# Altium schematic symbol library CONNECTOR_Test.SchLib: 37 symbols
Pins are listed as number, name and electrical type; pins without a type are passive.

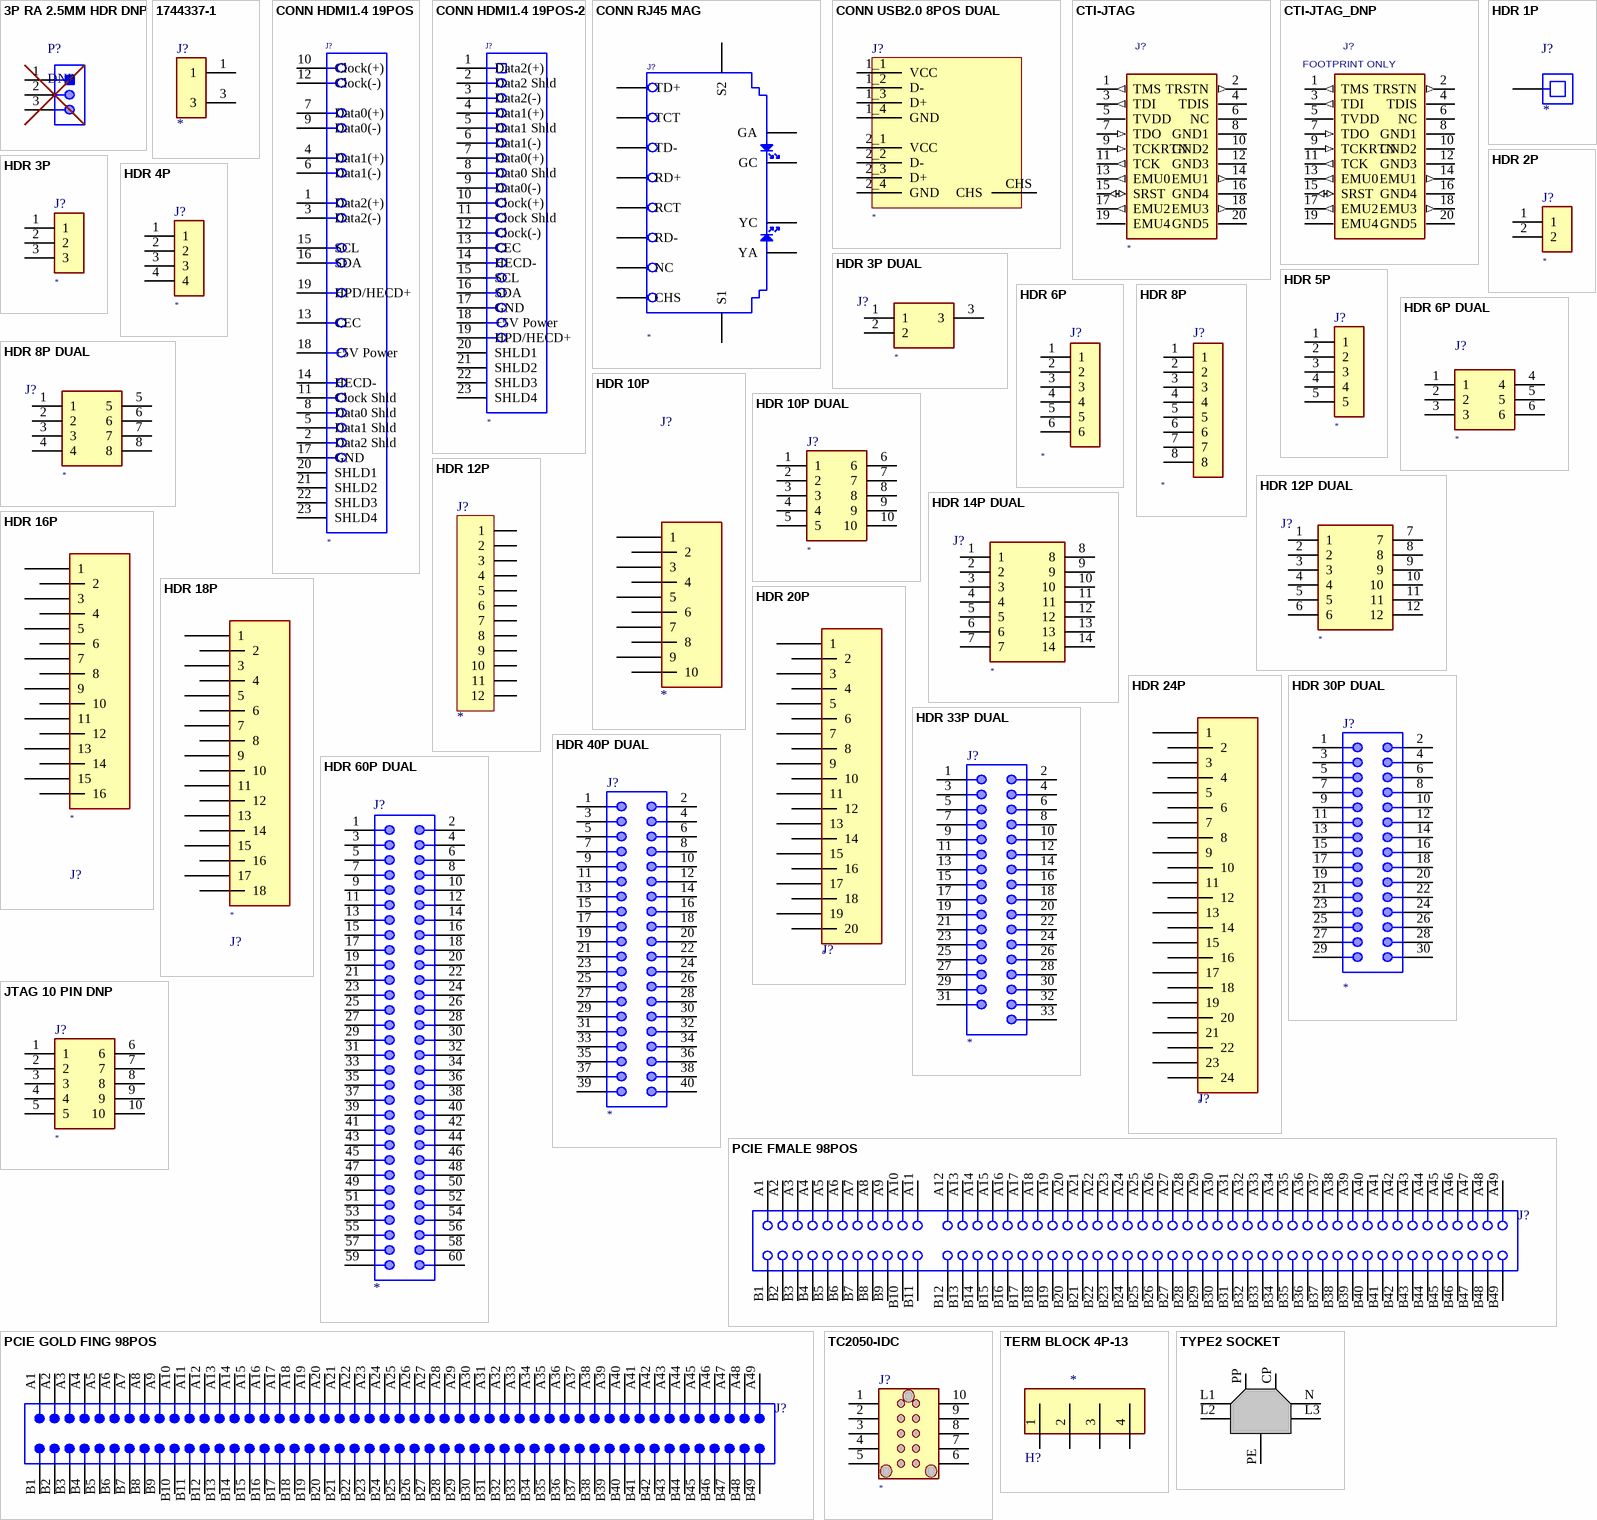
[diagram p0: symbols 3P RA 2.5MM HDR DNP to TYPE2 SOCKET]

## 3P RA 2.5MM HDR DNP
designator P?, comment DNP  (no BOM)
CONN HEADER R/A 3POS 2.5MM; Manufacturer 1: JST; Manufacturer Part Number 1: S3B-XH-A(LF)(SN); Current Rating: 3A; Contact Resistance: 20mR; Voltage Rating (AC): 250V; Number of Positions: 3; Insulation Resistance: 1GR; Gender: Male; Connector Type: Male Pin; Wire/Cable Gauge: 22AWG; Supplier 1: Digi-Key; RoHS: Yes; Category: Headers and Wire Housings; Stock 1: 15136; Pricing 1: 1=0.22000, 10=0.20400, 100=0.14140, 500=0.11968, 1000=0.09792, 5000=0.08704, 10000=0.07888 (USD); Mount: Through Hole; Contact Material: Brass; Contact Plating: Tin,Lead,Copper; Color: Natural; Housing Color: White; Housing Material: Polyamide; Min Operating Temperature: -25°C; Max Operating Temperature: 85°C; Number of Rows: 1; Package Quantity: 1000; Packaging: Bulk; Max Current Rating: 3A; Voltage Rating: 250V; Termination: Press-Fit; Number of Contacts: 3; Max Voltage Rating (AC): 250V; Orientation: Right Angle; Length: 9.9mm; Pitch: 2.5mm; Lead Pitch: 2.5mm; Depth: 11.5mm; REACH SVHC: No SVHC; Lead Free: Lead Free; ComponentLink1URL: https://datasheet.ciiva.com/26894/getdatasheetpartid-456511-26894917.pdf?src-supplier=Verical; ComponentLink1Description: https://datasheet.ciiva.com/26894/getdatasheetpartid-456511-26894917.pdf?src-supplier=Verical; ComponentLink2URL: https://datasheet.ciiva.com/16397/s3b-xh-a-lf-sn-16397639.pdf?src-supplier=Future+Electronics; ComponentLink2Description: https://datasheet.ciiva.com/16397/s3b-xh-a-lf-sn-16397639.pdf?src-supplier=Future+Electronics; ComponentLink3URL: https://datasheet.ciiva.com/726/exh-726405.pdf?src-supplier=Digi-Key; ComponentLink3Description: https://datasheet.ciiva.com/726/exh-726405.pdf?src-supplier=Digi-Key; Supplier Part Number 1: 455-2250-ND
footprint CONN 3 PIN RA - DNP
pins: 1, 2, 3

## 1744337-1
designator J?
Manufacturer Part Number: *
pins: 1, 3

## CONN HDMI1.4 19POS
designator J?
Manufacturer Part Number: *
pins: 1 Data2(+), 2 Data2 Shld, 3 Data2(-), 4 Data1(+), 5 Data1 Shld, 6 Data1(-), 7 Data0(+), 8 Data0 Shld, 9 Data0(-), 10 Clock(+), 11 Clock Shld, 12 Clock(-), 13 CEC, 14 HECD-, 15 SCL, 16 SDA, 17 GND, 18 +5V Power, 19 HPD/HECD+, 20 SHLD1, 21 SHLD2, 22 SHLD3, 23 SHLD4

## CONN HDMI1.4 19POS-2
designator J?
Manufacturer Part Number: *
pins: 1 Data2(+), 2 Data2 Shld, 3 Data2(-), 4 Data1(+), 5 Data1 Shld, 6 Data1(-), 7 Data0(+), 8 Data0 Shld, 9 Data0(-), 10 Clock(+), 11 Clock Shld, 12 Clock(-), 13 CEC, 14 HECD-, 15 SCL, 16 SDA, 17 GND, 18 +5V Power, 19 HPD/HECD+, 20 SHLD1, 21 SHLD2, 22 SHLD3, 23 SHLD4

## CONN RJ45 MAG
designator J?
Manufacturer Part Number: *
pins: 1 TD+, 2 TD-, 3 RD+, 4 TCT, 5 RCT, 6 RD-, 7 NC, 8 CHS, 9 GA, 10 GC, 11 YA, 12 YC, 13 S1, 14 S2

## CONN USB2.0 8POS DUAL
designator J?
Manufacturer Part Number: *
pins: 1_1 VCC, 1_2 D-, 1_3 D+, 1_4 GND, 2_1 VCC, 2_2 D-, 2_3 D+, 2_4 GND, CHS

## CTI-JTAG
designator J?
JTAG TERMINAL; Manufacturer Part Number: *
pins: 1 TMS (out), 2 TRSTN (out), 3 TDI (out), 4 TDIS (power), 5 TVDD (power), 6 NC, 7 TDO (in), 8 GND1 (power), 9 TCKRTN (in), 10 GND2 (power), 11 TCK (out), 12 GND3 (power), 13 EMU0 (out), 14 EMU1 (out), 15 SRST (io), 16 GND4 (power), 17 EMU2 (out), 18 EMU3 (out), 19 EMU4, 20 GND5 (power)

## CTI-JTAG_DNP
designator J?, comment FOOTPRINT ONLY  (no BOM)
JTAG TERMINAL
pins: 1 TMS (out), 2 TRSTN (out), 3 TDI (out), 4 TDIS (power), 5 TVDD (power), 6 NC, 7 TDO (in), 8 GND1 (power), 9 TCKRTN (in), 10 GND2 (power), 11 TCK (out), 12 GND3 (power), 13 EMU0 (out), 14 EMU1 (out), 15 SRST (io), 16 GND4 (power), 17 EMU2 (out), 18 EMU3 (out), 19 EMU4, 20 GND5 (power)

## HDR 1P
designator J?
Manufacturer Part Number: *
pins: 1

## HDR 2P
designator J?
Manufacturer Part Number: *
pins: 1, 2

## HDR 3P
designator J?
Manufacturer Part Number: *
pins: 1, 2, 3

## HDR 3P DUAL
designator J?
Manufacturer Part Number: *
pins: 1, 2, 3

## HDR 4P
designator J?
Manufacturer Part Number: *
pins: 1, 2, 3, 4

## HDR 5P
designator J?
ComponentLink1Description: Datasheet; ComponentLink1URL: http://www.degson.com/en/pro_detail/id/1053; Manufacturer Part Number: *
pins: 1, 2, 3, 4, 5

## HDR 6P
designator J?
Manufacturer Part Number: *
pins: 1, 2, 3, 4, 5, 6

## HDR 6P DUAL
designator J?
Manufacturer Part Number: *
pins: 1, 2, 3, 4, 5, 6

## HDR 8P
designator J?
Manufacturer Part Number: *
pins: 1, 2, 3, 4, 5, 6, 7, 8

## HDR 8P DUAL
designator J?
Manufacturer Part Number: *
pins: 1, 2, 3, 4, 5, 6, 7, 8

## HDR 10P
designator J?
Manufacturer Part Number: *
pins: 1, 2, 3, 4, 5, 6, 7, 8, 9, 10

## HDR 10P DUAL
designator J?
Manufacturer Part Number: *
pins: 1, 2, 3, 4, 5, 6, 7, 8, 9, 10

## HDR 12P
designator J?
Manufacturer Part Number: *
pins: 1, 2, 3, 4, 5, 6, 7, 8, 9, 10, 11, 12

## HDR 12P DUAL
designator J?
Manufacturer Part Number: *
pins: 1, 2, 3, 4, 5, 6, 7, 8, 9, 10, 11, 12

## HDR 14P DUAL
designator J?
Manufacturer Part Number: *
pins: 1, 2, 3, 4, 5, 6, 7, 8, 9, 10, 11, 12, 13, 14

## HDR 16P
designator J?
Manufacturer Part Number: *
pins: 1, 2, 3, 4, 5, 6, 7, 8, 9, 10, 11, 12, 13, 14, 15, 16

## HDR 18P
designator J?
Manufacturer Part Number: *
pins: 1, 2, 3, 4, 5, 6, 7, 8, 9, 10, 11, 12, 13, 14, 15, 16, 17, 18

## HDR 20P
designator J?
Manufacturer Part Number: *
pins: 1, 2, 3, 4, 5, 6, 7, 8, 9, 10, 11, 12, 13, 14, 15, 16, 17, 18, 19, 20

## HDR 24P
designator J?
Manufacturer Part Number: *
pins: 1, 2, 3, 4, 5, 6, 7, 8, 9, 10, 11, 12, 13, 14, 15, 16, 17, 18, 19, 20, 21, 22, 23, 24

## HDR 30P DUAL
designator J?
Manufacturer Part Number: *
pins: 1, 2, 3, 4, 5, 6, 7, 8, 9, 10, 11, 12, 13, 14, 15, 16, 17, 18, 19, 20, 21, 22, 23, 24, 25, 26, 27, 28, 29, 30

## HDR 33P DUAL
designator J?
Manufacturer Part Number: *
pins: 1, 2, 3, 4, 5, 6, 7, 8, 9, 10, 11, 12, 13, 14, 15, 16, 17, 18, 19, 20, 21, 22, 23, 24, 25, 26, 27, 28, 29, 30, 31, 32, 33

## HDR 40P DUAL
designator J?
Manufacturer Part Number: *
pins: 1, 2, 3, 4, 5, 6, 7, 8, 9, 10, 11, 12, 13, 14, 15, 16, 17, 18, 19, 20, 21, 22, 23, 24, 25, 26, 27, 28, 29, 30, 31, 32, 33, 34, 35, 36, 37, 38, 39, 40

## HDR 60P DUAL
designator J?
Manufacturer Part Number: *
pins: 1, 2, 3, 4, 5, 6, 7, 8, 9, 10, 11, 12, 13, 14, 15, 16, 17, 18, 19, 20, 21, 22, 23, 24, 25, 26, 27, 28, 29, 30, 31, 32, 33, 34, 35, 36, 37, 38, 39, 40, 41, 42, 43, 44, 45, 46, 47, 48, 49, 50, 51, 52, 53, 54, 55, 56, 57, 58, 59, 60

## JTAG 10 PIN DNP
designator J?  (no BOM)
Manufacturer Part Number: *
pins: 1, 2, 3, 4, 5, 6, 7, 8, 9, 10

## PCIE FMALE 98POS
designator J?  (value not drawn)
pins: A1, A2, A3, A4, A5, A6, A7, A8, A9, A10, A11, A12, A13, A14, A15, A16, A17, A18, A19, A20, A21, A22, A23, A24, A25, A26, A27, A28, A29, A30, A31, A32, A33, A34, A35, A36, A37, A38, A39, A40, A41, A42, A43, A44, A45, A46, A47, A48, A49, B1, B2, B3, B4, B5, B6, B7, B8, B9, B10, B11, B12, B13, B14, B15, B16, B17, B18, B19, B20, B21, B22, B23, B24, B25, B26, B27, B28, B29, B30, B31, B32, B33, B34, B35, B36, B37, B38, B39, B40, B41, B42, B43, B44, B45, B46, B47, B48, B49

## PCIE GOLD FING 98POS
designator J?  (value not drawn)  (no BOM)
ComponentLink1Description: Datasheet; ComponentLink1URL: https://www.samtec.com/products/pcie
pins: A1, A2, A3, A4, A5, A6, A7, A8, A9, A10, A11, A12, A13, A14, A15, A16, A17, A18, A19, A20, A21, A22, A23, A24, A25, A26, A27, A28, A29, A30, A31, A32, A33, A34, A35, A36, A37, A38, A39, A40, A41, A42, A43, A44, A45, A46, A47, A48, A49, B1, B2, B3, B4, B5, B6, B7, B8, B9, B10, B11, B12, B13, B14, B15, B16, B17, B18, B19, B20, B21, B22, B23, B24, B25, B26, B27, B28, B29, B30, B31, B32, B33, B34, B35, B36, B37, B38, B39, B40, B41, B42, B43, B44, B45, B46, B47, B48, B49

## TC2050-IDC
designator J?  (no BOM)
Manufacturer Part Number: *
pins: 1, 2, 3, 4, 5, 6, 7, 8, 9, 10

## TERM BLOCK 4P-13
designator H?, comment DG78C-B-04P-13-00AH  (value not drawn)
TERM.BLK.13.00MM 4P BARRIER TERMINAL BLACK; Manufacturer Part Number: *
pins: 1, 2, 3, 4

## TYPE2 SOCKET
designator *  (value not drawn)  (graphical)
pins: CP, L1, L2, L3, N, PE, PP